# Altium schematic symbol library LMR33630BRNXR.SchLib: 1 symbol
Pins are listed as number, name and electrical type; pins without a type are passive.

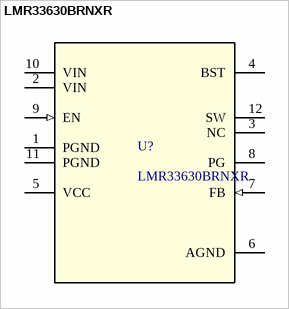
[diagram p0: symbol LMR33630BRNXR]

## LMR33630BRNXR
designator U?
SIMPLE SWITCHERÂ® 3.8V to 36V, 3A Synchronous Buck Converter With Ultra-Low EMI 12-VQFN-HR -40 to 125; Manufacturer_Name: Texas Instruments; TYPE: TYPE; RefDes: RefDes; Copyright: Copyright (C) 2025 Ultra Librarian. All rights reserved.; Manufacturer_Part_Number: LMR33630BRNXR
footprint RNX0012B
pins: 1 PGND (power), 2 VIN (power), 3 NC, 4 BST, 5 VCC (power), 6 AGND (power), 7 FB (in), 8 PG (oc), 9 EN (in), 10 VIN (power), 11 PGND (power), 12 SW (power)